# Altium schematic symbol library conn.SchLib: 15 symbols
Pins are listed as number, name and electrical type; pins without a type are passive.

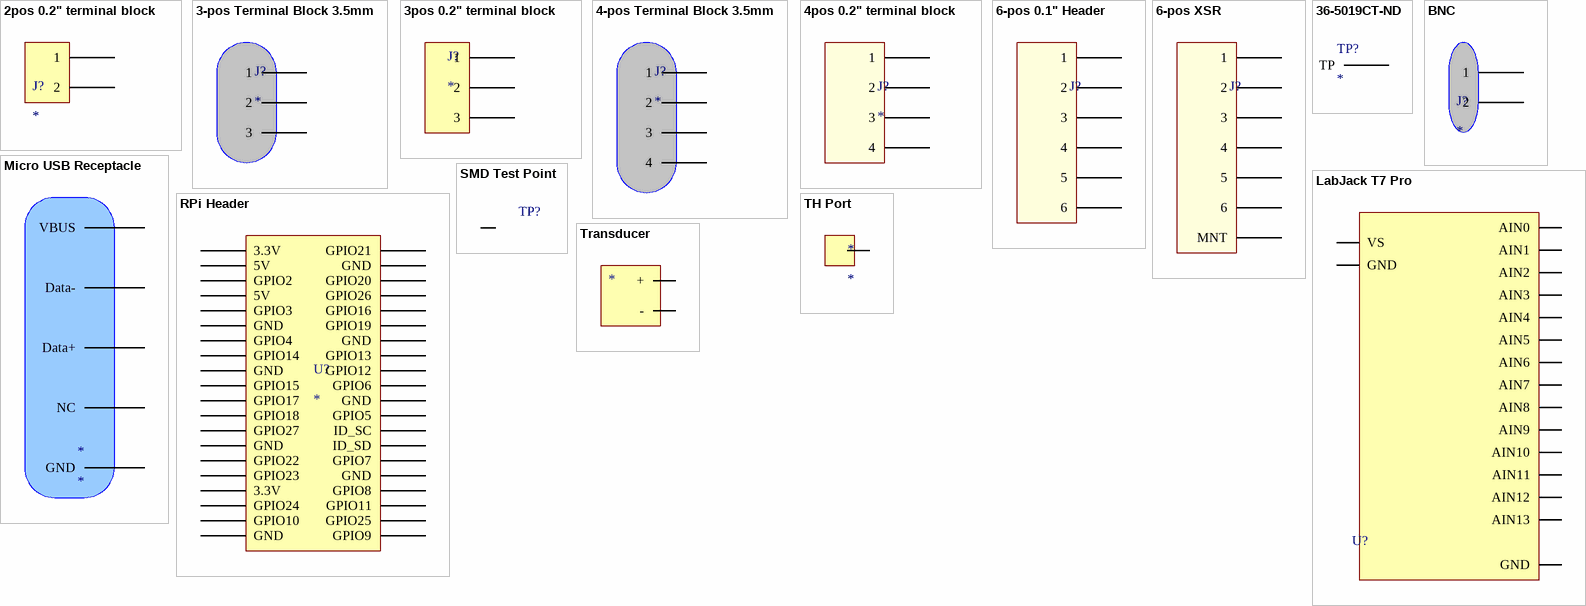
[diagram p0: symbols 2pos 0.2" terminal block to Transducer]

## 2pos 0.2" terminal block
designator J?
OSTTC022162
footprint 2POS 0.2"
pins: 1, 2

## 3-pos Terminal Block 3.5mm
designator J?
OSTTE030161
footprint 3-pos 3.5mm
pins: 1, 2, 3

## 3pos 0.2" terminal block
designator J?
OSTTC032162
footprint 3pos 0.2"
pins: 1, 2, 3

## 4-pos Terminal Block 3.5mm
designator J?
1776275-4
footprint 4-pos 3.5mm
pins: 1, 2, 3, 4

## 4pos 0.2" terminal block
designator J?
OSTTC042162
footprint 4pos 0.2" - duplicate
pins: 1, 2, 3, 4

## 6-pos 0.1" Header
designator J?  (value not drawn)
footprint 6-pin 0.1"
pins: 1, 2, 3, 4, 5, 6

## 6-pos XSR
designator J?  (value not drawn)
footprint 6-pos XSR - Long
footprint 6-pos XSR - Standard
footprint 6-pos XSR - Xtra Long
pins: 1, 2, 3, 4, 5, 6, 7 MNT

## 36-5019CT-ND
designator TP?
SMT Test Point
footprint SMT Test Point
pins: 1 TP

## BNC
designator J?
BNC Connector
footprint BNC
pins: 1, 2

## LabJack T7 Pro
designator U?  (value not drawn)
LabJack T7 Pro
footprint LabJack T7 Pro
pins: 1 GND, 1 GND, 24 AIN13, 25 AIN12, 26 AIN11, 27 AIN10, 28 AIN9, 29 AIN8, 30 AIN7, 31 AIN6, 32 AIN5, 33 AIN4, 34 AIN3, 35 AIN2, 36 AIN1, 37 AIN0, 100 VS

## Micro USB Receptacle
designator *
10118194-0001LF
footprint Micro_USB_B
pins: 1 VBUS, 2 Data-, 3 Data+, 4 NC, 5 GND

## RPi Header
designator U?
RPi Header
footprint 40-pin 0.1in
pins: 1 3.3V, 2 5V, 3 GPIO2, 4 5V, 5 GPIO3, 6 GND, 7 GPIO4, 8 GPIO14, 9 GND, 10 GPIO15, 11 GPIO17, 12 GPIO18, 13 GPIO27, 14 GND, 15 GPIO22, 16 GPIO23, 17 3.3V, 18 GPIO24, 19 GPIO10, 20 GND, 21 GPIO9, 22 GPIO25, 23 GPIO11, 24 GPIO8, 25 GND, 26 GPIO7, 27 ID_SD, 28 ID_SC, 29 GPIO5, 30 GND, 31 GPIO6, 32 GPIO12, 33 GPIO13, 34 GND, 35 GPIO19, 36 GPIO16, 37 GPIO26, 38 GPIO20, 39 GND, 40 GPIO21

## SMD Test Point
designator TP?  (value not drawn)
Manufacturer: Keystone Electronics; Manufacturer Part #: 5016; Digikey Part #: 36-5016CT-ND
footprint SMD Test Point
pins: 1

## TH Port
designator *
footprint TH Port
pins: 1

## Transducer
designator *  (value not drawn)
Sensortech Transducer
footprint Sensortech Transducer
pins: 1 +, 2 -